# EAGLE library part MAX6818 (library MAX6818 CMOS Switch debouncer)
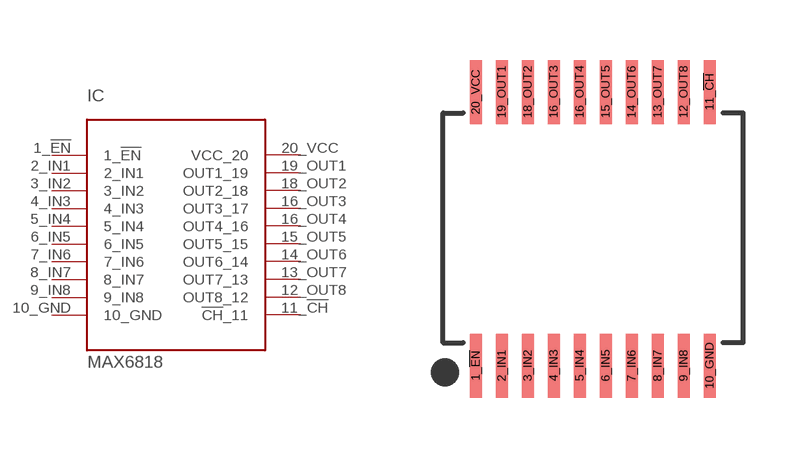
[diagram p0: symbol with the pads of 20SSOP; footprint 20SSOP]

Designator prefix IC

## MAX6818  [20SSOP]
1_!EN!  1_!EN!
2_IN1  2_IN1
3_IN2  3_IN2
4_IN3  4_IN3
5_IN4  5_IN4
6_IN5  6_IN5
7_IN6  7_IN6
8_IN7  8_IN7
9_IN8  9_IN8
10_GND  10_GND
11_!CH!  !CH!_11
12_OUT8  OUT8_12
13_OUT7  OUT7_13
14_OUT6  OUT6_14
15_OUT5  OUT5_15
16_OUT3  OUT3_17
16_OUT4  OUT4_16
18_OUT2  OUT2_18
19_OUT1  OUT1_19
20_VCC  VCC_20

## Footprint 20SSOP (pad centres in mm)
smd 0.3 x 1.6: 1_!EN! -2.93,-3.325; 2_IN1 -2.28,-3.325; 3_IN2 -1.63,-3.325; 4_IN3 -0.98,-3.325; 5_IN4 -0.33,-3.325; 6_IN5 0.32,-3.325; 7_IN6 0.97,-3.325; 8_IN7 1.62,-3.325; 9_IN8 2.27,-3.325; 10_GND 2.92,-3.325; 11_!CH! 2.92,3.525; 12_OUT8 2.27,3.525; 13_OUT7 1.62,3.525; 14_OUT6 0.97,3.525; 15_OUT5 0.32,3.525; 16_OUT3 -0.98,3.525; 16_OUT4 -0.33,3.525; 18_OUT2 -1.63,3.525; 19_OUT1 -2.28,3.525; 20_VCC -2.93,3.525